# Altium schematic symbol library 100uF 24V.SchLib: 1 symbol
Pins are listed as number, name and electrical type; pins without a type are passive.

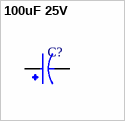
[diagram p0: symbol 100uF 25V]

## 100uF 25V
designator C?
footprint CAPPRD250W50D630H1120
pins: N, P